# Altium schematic symbol library ISO standart wiring symbols.SchLib: 27 symbols
Pins are listed as number, name and electrical type; pins without a type are passive.

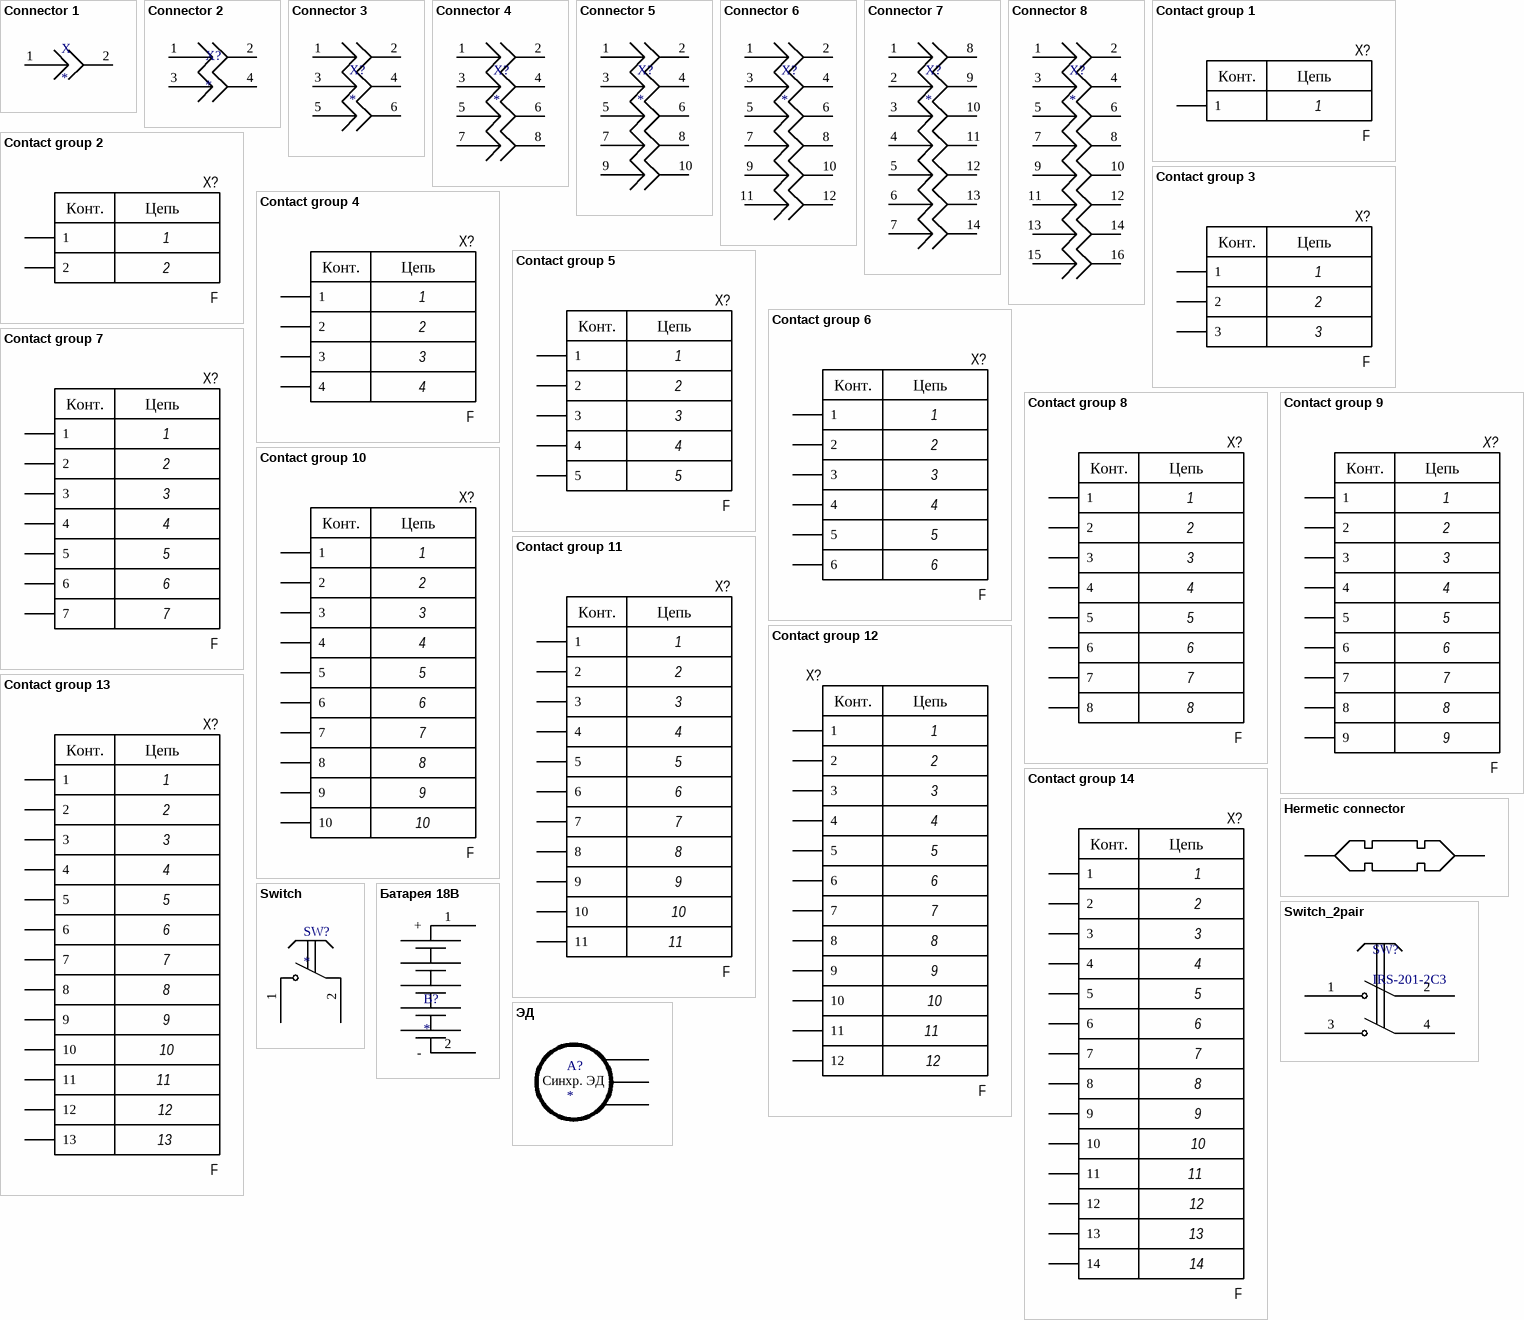
[diagram p0: symbols Connector 1 to ЭД]

## Connector 1
designator X
pins: 1 13, 2 14

## Connector 2
designator X?
pins: 1 13, 2 14, 3 13, 4 14

## Connector 3
designator X?
pins: 1 13, 2 14, 3 13, 4 14, 5 13, 6 14

## Connector 4
designator X?
pins: 1 13, 2 14, 3 13, 4 14, 5 13, 6 14, 7 13, 8 14

## Connector 5
designator X?
pins: 1 13, 2 14, 3 13, 4 14, 5 13, 6 14, 7 13, 8 14, 9 13, 10 14

## Connector 6
designator X?
pins: 1 13, 2 14, 3 13, 4 14, 5 13, 6 14, 7 13, 8 14, 9 13, 10 14, 11 13, 12 14

## Connector 7
designator X?
pins: 1 13, 2 13, 3 13, 4 13, 5 13, 6 13, 7 13, 8, 9 14, 10 14, 11 14, 12 14, 13 14, 14

## Connector 8
designator X?
pins: 1 13, 2 14, 3 13, 4 14, 5 13, 6 14, 7 13, 8 14, 9 13, 10 14, 11 13, 12 14, 13, 14, 15 13, 16 14

## Contact group 1
designator X?, comment F  Parameter 1: 1
pins: 1
text: Конт.; Цепь

## Contact group 2
designator X?, comment F  Parameter 2: 2  Parameter 1: 1
pins: 1, 2
text: Конт.; Цепь

## Contact group 3
designator X?, comment F  Parameter 3: 3  Parameter 2: 2  Parameter 1: 1
pins: 1, 2, 3
text: Конт.; Цепь

## Contact group 4
designator X?, comment F  Parameter 4: 4  Parameter 3: 3  Parameter 2: 2  Parameter 1: 1
pins: 1, 2, 3, 4
text: Конт.; Цепь

## Contact group 5
designator X?, comment F  Parameter 5: 5  Parameter 4: 4  Parameter 3: 3  Parameter 2: 2  Parameter 1: 1
pins: 1, 2, 3, 4, 5
text: Конт.; Цепь

## Contact group 6
designator X?, comment F  Parameter 6: 6  Parameter 5: 5  Parameter 4: 4  Parameter 3: 3  Parameter 2: 2  Parameter 1: 1
pins: 1, 2, 3, 4, 5, 6
text: Конт.; Цепь

## Contact group 7
designator X?, comment F  Parameter 7: 7  Parameter 6: 6  Parameter 5: 5  Parameter 4: 4  Parameter 3: 3  Parameter 2: 2  Parameter 1: 1
pins: 1, 2, 3, 4, 5, 6, 7
text: Конт.; Цепь

## Contact group 8
designator X?, comment F  Parameter 8: 8  Parameter 7: 7  Parameter 6: 6  Parameter 5: 5  Parameter 4: 4  Parameter 3: 3  Parameter 2: 2  Parameter 1: 1
pins: 1, 2, 3, 4, 5, 6, 7, 8
text: Конт.; Цепь

## Contact group 9
designator X?, comment F  Parameter 9: 9  Parameter 8: 8  Parameter 7: 7  Parameter 6: 6  Parameter 5: 5  Parameter 4: 4  Parameter 3: 3  Parameter 2: 2  Parameter 1: 1
pins: 1, 2, 3, 4, 5, 6, 7, 8, 9
text: Конт.; Цепь

## Contact group 10
designator X?, comment F  Parameter 9: 9  Parameter 8: 8  Parameter 7: 7  Parameter 6: 6  Parameter 5: 5  Parameter 4: 4  Parameter 3: 3  Parameter 2: 2  Parameter 10: 10  Parameter 1: 1
pins: 1, 2, 3, 4, 5, 6, 7, 8, 9, 10
text: Конт.; Цепь

## Contact group 11
designator X?, comment F  Parameter 11: 11  Parameter 9: 9  Parameter 8: 8  Parameter 7: 7  Parameter 6: 6  Parameter 5: 5  Parameter 4: 4  Parameter 3: 3  Parameter 2: 2  Parameter 10: 10  Parameter 1: 1
pins: 1, 2, 3, 4, 5, 6, 7, 8, 9, 10, 11
text: Конт.; Цепь

## Contact group 12
designator X?, comment F  Parameter 12: 12  Parameter 11: 11  Parameter 9: 9  Parameter 8: 8  Parameter 7: 7  Parameter 6: 6  Parameter 5: 5  Parameter 4: 4  Parameter 3: 3  Parameter 2: 2  Parameter 10: 10  Parameter 1: 1
pins: 1, 2, 3, 4, 5, 6, 7, 8, 9, 10, 11, 12
text: Конт.; Цепь

## Contact group 13
designator X?, comment F  Parameter 13: 13  Parameter 12: 12  Parameter 11: 11  Parameter 9: 9  Parameter 8: 8  Parameter 7: 7  Parameter 6: 6  Parameter 5: 5  Parameter 4: 4  Parameter 3: 3  Parameter 2: 2  Parameter 10: 10  Parameter 1: 1
pins: 1, 2, 3, 4, 5, 6, 7, 8, 9, 10, 11, 12, 13
text: Конт.; Цепь

## Contact group 14
designator X?, comment F  Parameter 14: 14  Parameter 13: 13  Parameter 12: 12  Parameter 11: 11  Parameter 9: 9  Parameter 8: 8  Parameter 7: 7  Parameter 6: 6  Parameter 5: 5  Parameter 4: 4  Parameter 3: 3  Parameter 2: 2  Parameter 10: 10  Parameter 1: 1
pins: 1, 2, 3, 4, 5, 6, 7, 8, 9, 10, 11, 12, 13, 14
text: Конт.; Цепь

## Hermetic connector
designator *  (value not drawn)
pins: 1 15, 2 16

## Switch
designator SW?
pins: 1, 2

## Switch_2pair
designator SW?, comment IRS-201-2C3
pins: 1, 2, 3, 4

## Батарея 18В
designator B?
pins: 1 +, 2 -

## ЭД
designator А?
pins: 17, 18, 19
text: Синхр. ЭД